# Altium footprint library to-case.PcbLib: 113 footprints (part 4 of 8)
Each footprint in its own frame and in the unit in brackets; x right, y up, seen from the top. Pads: shape width x height; smd on the part's side, far side on the other; paste and mask are expansions set on the pad; w line width, h text height; cw(c..) or ccw(c..) is an arc to the next point about the centre after c.
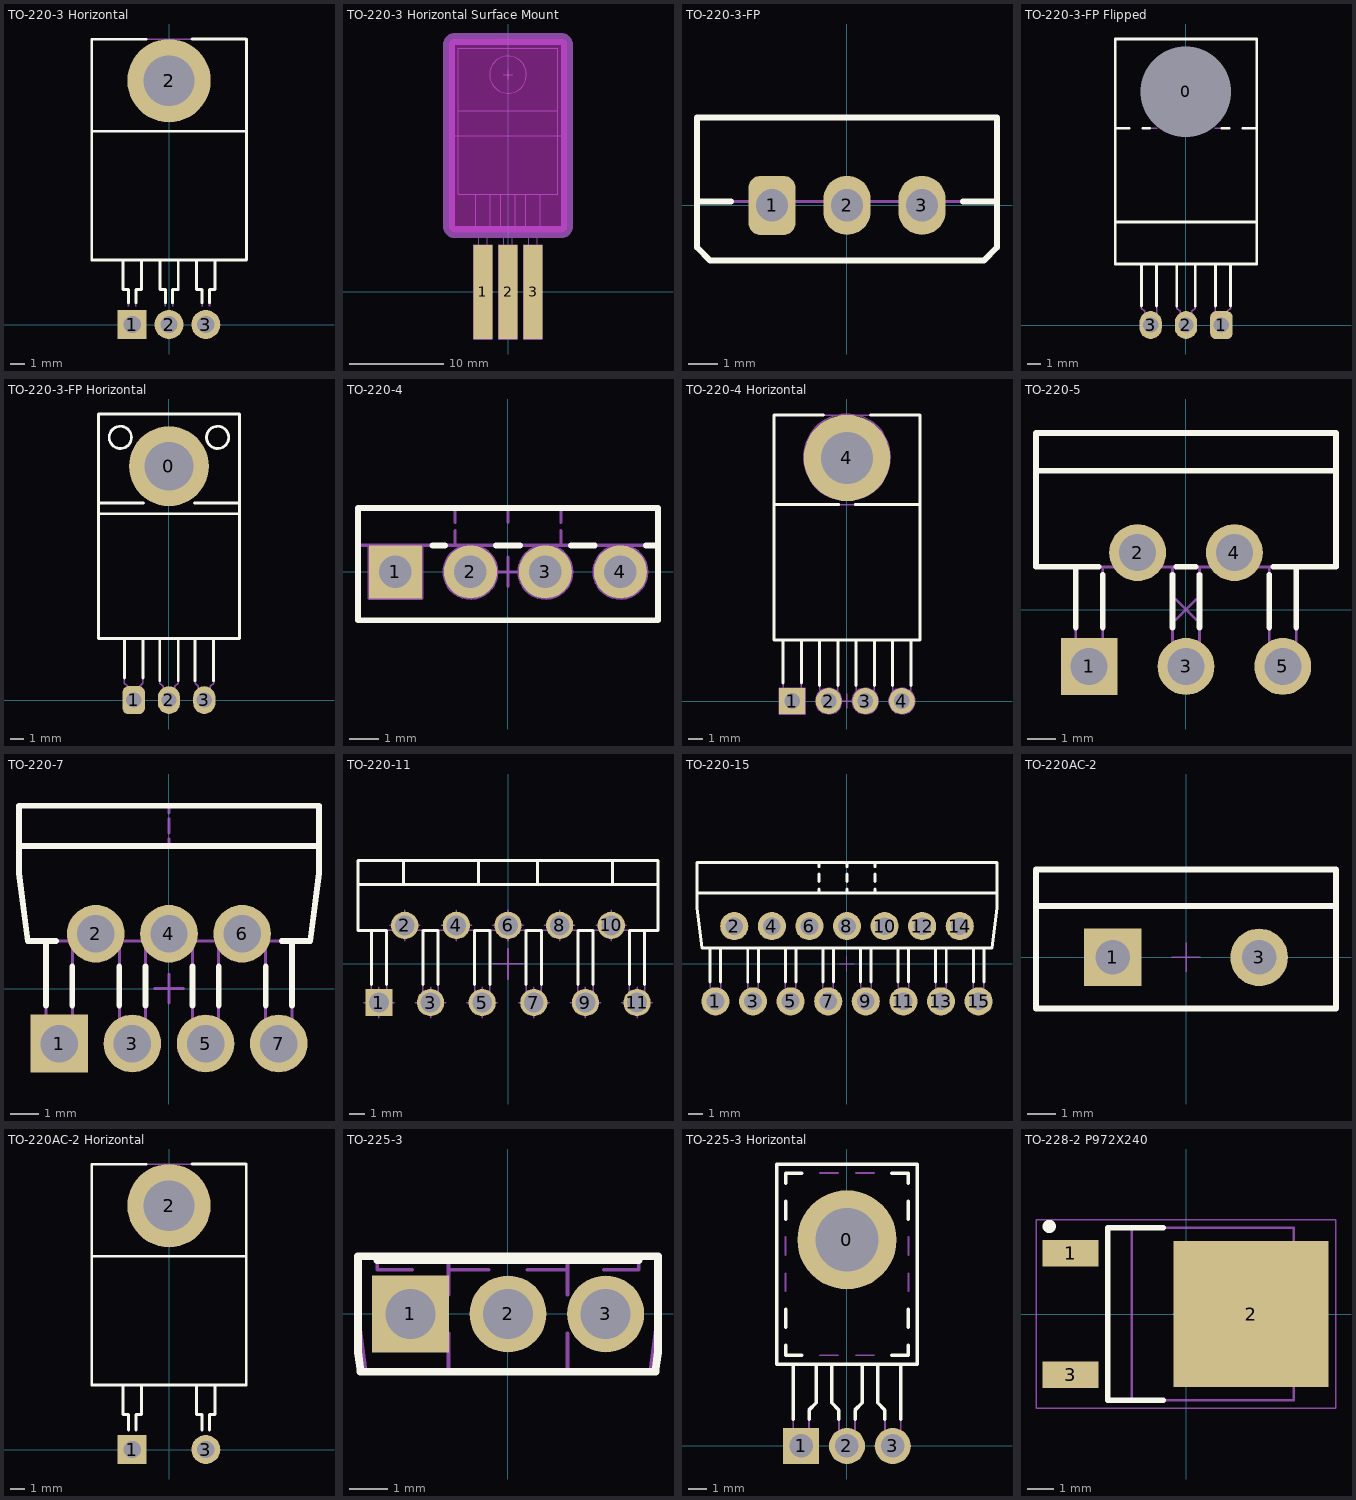
[diagram p3: the footprints below, top view; thin cyan lines are the x and y axes]

## TO-220-3 Horizontal [mm] "TO-220 3-Terminal + Tab - Horizontal Mount"
height 4.7
pads (4):
  rect 2x2 hole 1.2: 1(-2.54,0)
  round 2 hole 1.2: 2(0,0) 3(2.54,0)
  round 5.75 hole 3.5: 2(0,16.828)
Top Overlay:
  lines w0.2: -5.334,13.335 5.334,13.335 ; -3.175,4.445 -3.175,2.413 -2.794,2.413 -2.794,1.5 ; -2.286,1.5 -2.286,2.413 -1.905,2.413 -1.905,4.445 ; -1.6,19.685 -5.334,19.685 -5.334,4.445 5.334,4.445 5.334,19.685 5.319,19.7 1.6,19.7 ; -0.635,4.445 -0.635,2.413 -0.254,2.413 -0.254,1.5 ; 0.254,1.5 0.254,2.413 0.635,2.413 0.635,4.445 ; 1.905,4.445 1.905,2.413 2.286,2.413 2.286,1.5 ; 2.794,1.5 2.794,2.413 3.175,2.413 3.175,4.445
Mechanical 1:
  circle w0.1: c0,16.828 r2
  lines w0.1: -5.334,13.335 5.334,13.335 ; -3.175,4.445 -3.175,2.413 -2.794,2.413 -2.794,1.27 ; -2.286,1.27 -2.286,2.413 -1.905,2.413 -1.905,4.445 ; -0.635,4.445 -0.635,2.413 -0.254,2.413 -0.254,1.27 ; 0.254,1.27 0.254,2.413 0.635,2.413 0.635,4.445 ; 1.905,4.445 1.905,2.413 2.286,2.413 2.286,1.27 ; 2.794,1.27 2.794,2.413 3.175,2.413 3.175,4.445 ; -5.334,4.445 -5.334,19.685 5.334,19.685 5.334,4.445 -5.334,4.445
Mechanical 15:
  circle w0.1: c-0.002,16.831 r2
  lines w0.1: -5.336,13.338 5.332,13.338 ; -3.177,4.448 -3.177,2.416 -2.796,2.416 -2.796,1.273 ; -2.288,1.273 -2.288,2.416 -1.907,2.416 -1.907,4.448 ; -0.637,4.448 -0.637,2.416 -0.256,2.416 -0.256,1.273 ; -0.502,0 -0.002,0 ; -0.002,-0.5 -0.002,0 ; -0.002,0.5 -0.002,0 ; 0.252,1.273 0.252,2.416 0.633,2.416 0.633,4.448 ; 0.498,0 -0.002,0 ; 1.903,4.448 1.903,2.416 2.284,2.416 2.284,1.273 ; 2.792,1.273 2.792,2.416 3.173,2.416 3.173,4.448 ; -5.336,4.448 5.332,4.448 5.332,19.688 -5.336,19.688 -5.336,4.448
3D body "TO-220-H.stp": height 4.7, standoff -3.5, extent -5.27,-0.28 5.27,19.49

## TO-220-3 Horizontal Surface Mount [mm]
height 4.82
pads (3):
  rect 2x10 smd paste-1: 1(-2.66,0) 2(0,0) 3(2.658,0)
Keep-Out Layer:
  board cut-out: -6.25,6.95 -6.25,26.25 -6.25,26.369 -6.159,26.59 -5.99,26.759 -5.769,26.85 -5.65,26.85 5.65,26.85 5.769,26.85 5.99,26.759 6.159,26.59 6.25,26.369 6.25,26.25 6.25,6.95 6.25,6.831 6.159,6.61 5.99,6.441 5.769,6.35 5.65,6.35 -5.65,6.35 -5.769,6.35 -5.99,6.441 -6.159,6.61 -6.25,6.831
Mechanical 1:
  circle w0.1: c0,23.06 r1.961
  lines w0.1: -6.25,16.6 6.25,16.6 ; -5.27,19.25 5.27,19.25 ; -3.42,10.36 -3.42,6.56 -3.115,6.26 -3.115,-3.91 -2.205,-3.91 -2.205,6.26 -1.9,6.56 -1.9,10.36 ; -0.76,10.36 -0.76,6.56 -0.455,6.26 -0.455,-3.91 0.455,-3.91 0.455,6.26 0.76,6.56 0.76,10.36 ; 1.9,10.36 1.9,6.56 2.2,6.26 2.2,-3.91 3.115,-3.91 3.115,6.26 3.42,6.56 3.42,10.36 ; -5.27,10.36 -5.27,25.85 5.27,25.85 5.27,10.36 -5.27,10.36
  lines w1.27: -6.25,6.95 ccw(c-5.65,6.95) -5.65,6.35 5.65,6.35 ccw(c5.65,6.95) 6.25,6.95 6.25,26.25 ccw(c5.65,26.25) 5.65,26.85 -5.65,26.85 ccw(c-5.65,26.25) -6.25,26.25 -6.25,6.95
Mechanical 8:
  lines w0.1: -3.16,0 -2.66,0 ; -2.66,-0.5 -2.66,0 ; -2.66,0.5 -2.66,0 ; -2.16,0 -2.66,0 ; -0.5,23.06 0,23.06 ; 0,22.56 0,23.06 ; 0,23.56 0,23.06 ; 0.5,23.06 0,23.06 ; 2.158,0 2.658,0 ; 2.658,-0.5 2.658,0 ; 2.658,0.5 2.658,0 ; 3.158,0 2.658,0 ; -6.25,6.95 ccw(c-5.65,6.95) -5.65,6.35 5.65,6.35 ccw(c5.65,6.95) 6.25,6.95 6.25,26.25 ccw(c5.65,26.25) 5.65,26.85 -5.65,26.85 ccw(c-5.65,26.25) -6.25,26.25 -6.25,6.95 ; -3.66,-5 -1.66,-5 -1.66,5 -3.66,5 -3.66,-5 ; -1,-5 1,-5 1,5 -1,5 -1,-5 ; 1.657,-5 3.658,-5 3.658,5 1.657,5 1.657,-5
Mechanical 15:
  circle w0.1: c0,23.06 r1.961
  lines w0.1: -5.27,19.25 5.27,19.25 ; -3.42,10.36 -3.42,6.56 -3.115,6.26 -3.115,-3.91 -2.205,-3.91 -2.205,6.26 -1.9,6.56 -1.9,10.36 ; -0.76,10.36 -0.76,6.56 -0.455,6.26 -0.455,-3.91 0.455,-3.91 0.455,6.26 0.76,6.56 0.76,10.36 ; -0.5,0 0,0 ; 0,-0.5 0,0 ; 0,0.5 0,0 ; 0.5,0 0,0 ; 1.9,10.36 1.9,6.56 2.2,6.26 2.2,-3.91 3.115,-3.91 3.115,6.26 3.42,6.56 3.42,10.36 ; -5.27,10.36 5.27,10.36 5.27,25.85 -5.27,25.85 -5.27,10.36
Drill Drawing:
  lines w0.1: -6.25,11.2 -6.25,12.1 ; -5.65,11.382 -6.25,11.6 ; -5.65,11.818 -6.25,11.6 ; -4.218,6.95 -4,6.35 ; -4.218,26.25 -4,26.85 ; -3.782,6.95 -4,6.35 ; -3.782,26.25 -4,26.85 ; -0.5,16.6 0,16.6 ; 0,16.1 0,16.6 ; 0,17.1 0,16.6 ; 0.5,16.6 0,16.6 ; 1.77,7.277 5.323,7.277 6.074,6.526 ; 5.168,6.948 6.074,6.526 ; 5.65,11.382 6.25,11.6 ; 5.65,11.818 6.25,11.6 ; 5.652,7.432 6.074,6.526 ; -6.25,11.6 6.25,11.6 ; -4,6.35 -4,26.85 ; -6.25,6.95 ccw(c-5.65,6.95) -5.65,6.35 5.65,6.35 ccw(c5.65,6.95) 6.25,6.95 6.25,26.25 ccw(c5.65,26.25) 5.65,26.85 -5.65,26.85 ccw(c-5.65,26.25) -6.25,26.25 -6.25,6.95 ; 6.25,11.2 6.25,12.1 6.25,11.2
  text "r0.6" at 1.863,7.392 h1
  text "12.5mm" at 0.842,11.835 h1
  text "20.5mm" at -4.279,14.435 h1
3D body "TO-220-H_a.stp": height 2.09, standoff -2.61, extent -5.27,-3.91 5.27,25.85

## TO-220-3-FP [mm] "TO-220 3-Terminal Outline/Fully Isolated package (2500VAC; 1minute) - Vertical Mount"
height 19.6
pads (3):
  rrect50% 1.6x2 hole 1.1: 1(-2.54,0)
  oval 1.6x2 hole 1.1: 2(0,0) 3(2.54,0)
Top Overlay:
  lines w0.2: -5.08,0.13 -3.934,0.13 ; 3.934,0.13 5.08,0.13 ; -5.08,2.98 -5.073,-1.426 -4.63,-1.87 4.63,-1.87 5.08,-1.42 5.08,2.98 -5.08,2.98
Mechanical 1:
  lines w0.1: -5.08,0.13 5.08,0.13 ; -5.08,2.98 -5.073,-1.426 -4.63,-1.87 4.63,-1.87 5.08,-1.42 5.08,2.98 -5.08,2.98
Mechanical 8:
  lines w0.1: -3.04,0 -2.54,0 ; -2.54,-0.5 -2.54,0 ; -2.54,0.5 -2.54,0 ; -2.04,0 -2.54,0 ; 2.04,0 2.54,0 ; 2.54,-0.5 2.54,0 ; 2.54,0.5 2.54,0 ; 3.04,0 2.54,0
Mechanical 15:
  lines w0.1: -5.08,0.13 5.08,0.13 ; -0.5,0 0,0 ; 0,-0.5 0,0 ; 0,0.5 0,0 ; 0.5,0 0,0 ; -5.08,2.98 -5.073,-1.426 -4.63,-1.87 4.63,-1.87 5.08,-1.42 5.08,2.98 -5.08,2.98
3D body "INFINEON_PG-TO-220 FP-V.stp": height 20.7, standoff -3.6, extent -5.08,-1.87 5.08,2.98

## TO-220-3-FP Flipped [mm] "TO-220 3-Terminal Outline INFINEON/INTERNATIONAL RECTIFIER Full-Pak Package - Flipped Horizontal Mount"
height 4.83
pads (4):
  round 1.5 hole 6.5 unplated mask+2.5: 0(0,16.75)
  rrect50% 1.6x2 hole 1.1: 1(2.54,0)
  oval 1.6x2 hole 1.1: 2(0,0) 3(-2.54,0)
Top Overlay:
  lines w0.2: -5.08,7.395 5.08,7.395 ; -5.08,14.137 -4.08,14.137 ; -3.205,1.365 -3.205,4.395 ; -3.08,14.137 -2.6,14.137 ; -2.115,1.365 -2.115,4.395 ; -0.665,1.365 -0.665,4.395 ; 0.665,1.365 0.665,4.395 ; 2.115,1.365 2.115,4.395 ; 2.58,14.137 3.08,14.137 ; 3.205,1.365 3.205,4.395 ; 4.08,14.137 5.08,14.137 ; -5.08,4.395 5.08,4.395 5.08,20.545 -5.08,20.545 -5.08,4.395
Mechanical 1:
  circle w0.1: c0,16.795 r1.6
  lines w0.1: -5.08,7.395 5.08,7.395 ; -5.08,14.137 -4.08,14.137 ; -3.205,4.395 -3.205,1.22 -2.965,0.98 -2.965,-0.315 -2.115,-0.315 -2.115,4.395 ; -3.08,14.137 -2.08,14.137 ; -1.08,14.137 1.08,14.137 ; -0.665,4.395 -0.665,1.22 -0.425,0.98 -0.425,-0.315 0.425,-0.315 0.425,0.98 0.665,1.22 0.665,4.395 ; 2.08,14.137 3.08,14.137 ; 2.115,4.395 2.115,-0.315 2.965,-0.315 2.965,0.98 3.205,1.22 3.205,4.395 ; 4.08,14.137 5.08,14.137 ; -5.08,4.395 -5.08,20.545 5.08,20.545 5.08,4.395 -5.08,4.395
Mechanical 8:
  lines w0.1: -3.04,0 -2.54,0 ; -2.54,-0.5 -2.54,0 ; -2.54,0.5 -2.54,0 ; -2.04,0 -2.54,0 ; -0.5,16.75 0,16.75 ; 0,16.25 0,16.75 ; 0,17.25 0,16.75 ; 0.5,16.75 0,16.75 ; 2.04,0 2.54,0 ; 2.54,-0.5 2.54,0 ; 2.54,0.5 2.54,0 ; 3.04,0 2.54,0
Mechanical 15:
  circle w0.1: c0.002,16.796 r1.6
  lines w0.1: -5.078,7.396 5.082,7.396 ; -5.078,14.138 -4.078,14.138 ; -3.203,4.396 -3.203,1.221 -2.963,0.981 -2.963,-0.314 -2.113,-0.314 -2.113,4.396 ; -3.078,14.138 -2.078,14.138 ; -1.078,14.138 1.082,14.138 ; -0.663,4.396 -0.663,1.221 -0.423,0.981 -0.423,-0.314 0.427,-0.314 0.427,0.981 0.667,1.221 0.667,4.396 ; -0.5,0 0,0 ; 0,-0.5 0,0 ; 0,0.5 0,0 ; 0.5,0 0,0 ; 2.082,14.138 3.082,14.138 ; 2.117,4.396 2.117,-0.314 2.967,-0.314 2.967,0.981 3.207,1.221 3.207,4.396 ; 4.082,14.138 5.082,14.138 ; -5.078,4.396 5.082,4.396 5.082,20.546 -5.078,20.546 -5.078,4.396
3D body "INFINEON_TO-220 FULL-PAK-hflip.stp": height 4.85, standoff -3.6, extent -5.08,-0.315 5.08,20.545

## TO-220-3-FP Horizontal [mm] "TO-220 3-Terminal Outline/Fully Isolated package (2500VAC; 1minute) - Horizontal Mount"
height 4.83
pads (4):
  round 5.75 hole 3.5: 0(0,16.828)
  rrect50% 1.6x2 hole 1.1: 1(-2.54,0)
  oval 1.6x2 hole 1.1: 2(0,0) 3(2.54,0)
Top Overlay:
  circle w0.2: c-3.5,18.9 r0.8
  circle w0.2: c3.5,18.9 r0.8
  lines w0.2: -5.08,13.407 5.08,13.407 ; -5.08,14.172 -1.827,14.172 ; -3.205,1.6 -3.205,4.43 ; -1.875,1.6 -1.875,4.43 ; -0.665,1.4 -0.665,4.43 ; 0.665,1.4 0.665,4.43 ; 1.827,14.172 5.08,14.172 ; 1.875,1.4 1.875,4.43 ; 3.205,1.4 3.205,4.43 ; -5.08,4.43 5.08,4.43 5.08,20.58 -5.08,20.58 -5.08,4.43
Mechanical 1:
  circle w0.1: c0,16.828 r2
  circle w0.1: c0,16.83 r1.6
  circle w0.1: c-3.5,18.9 r0.8
  circle w0.1: c3.5,18.9 r0.8
  lines w0.1: -5.08,13.407 5.08,13.407 ; -5.08,14.172 -1.827,14.172 ; -3.205,4.43 -3.205,1.22 -2.965,0.98 -2.965,-0.315 -2.115,-0.315 -2.115,0.98 -1.875,1.22 -1.875,4.43 ; -0.665,4.43 -0.665,1.22 -0.425,0.98 -0.425,-0.315 0.425,-0.315 0.425,0.98 0.665,1.22 0.665,4.43 ; 1.827,14.172 5.08,14.172 ; 1.875,4.43 1.875,1.22 2.115,0.98 2.115,-0.315 2.965,-0.315 2.965,0.98 3.205,1.22 3.205,4.43 ; -5.08,4.43 5.08,4.43 5.08,20.58 -5.08,20.58 -5.08,4.43
Mechanical 8:
  lines w0.1: -3.04,0 -2.54,0 ; -2.54,-0.5 -2.54,0 ; -2.54,0.5 -2.54,0 ; -2.04,0 -2.54,0 ; 2.04,0 2.54,0 ; 2.54,-0.5 2.54,0 ; 2.54,0.5 2.54,0 ; 3.04,0 2.54,0
Mechanical 15:
  circle w0.1: c3.501,18.903 r0.8
  circle w0.1: c0.001,16.831 r2
  circle w0.1: c0.001,16.833 r1.6
  circle w0.1: c-3.499,18.903 r0.8
  lines w0.1: -5.079,13.41 5.081,13.41 ; -5.079,14.176 -1.826,14.176 ; -3.204,4.433 -3.204,1.223 -2.964,0.983 -2.964,-0.312 -2.114,-0.312 -2.114,0.983 -1.874,1.223 -1.874,4.433 ; -0.664,4.433 -0.664,1.223 -0.424,0.983 -0.424,-0.312 0.426,-0.312 0.426,0.983 0.666,1.223 0.666,4.433 ; -0.5,0 0,0 ; 0,-0.5 0,0 ; 0,0.5 0,0 ; 0.5,0 0,0 ; 1.828,14.176 5.081,14.176 ; 1.876,4.433 1.876,1.223 2.116,0.983 2.116,-0.312 2.966,-0.312 2.966,0.983 3.206,1.223 3.206,4.433 ; -5.079,4.433 5.081,4.433 5.081,20.583 -5.079,20.583 -5.079,4.433
3D body "INFINEON_PG-TO-220 FP-H.stp": height 4.85, standoff -3.6, extent -5.08,-0.315 5.08,20.58

## TO-220-4 [mm] "TO-220 4-Terminal - Vertical Mount"
height 21.46
pads (4):
  rect 1.8x1.8 hole 1.1: 1(-3.81,0)
  round 1.8 hole 1.1: 2(-1.27,0) 3(1.27,0) 4(3.81,0)
Top Overlay:
  lines w0.2: -2.56,0.9 -2.137,0.9 ; -0.403,0.9 0.403,0.9 ; 2.137,0.9 2.943,0.9 ; 4.677,0.9 5.08,0.9 ; -5.08,-1.64 -5.08,2.17 5.08,2.17 5.08,-1.64 -5.08,-1.64
Mechanical 1:
  lines w0.1: -5.08,0.9 5.08,0.9 ; -1.79,0.9 -1.79,1.4 ; -1.79,1.67 -1.79,2.17 ; 1.79,0.9 1.79,1.4 ; 1.79,1.67 1.79,2.17 ; -5.08,-1.64 -5.08,2.17 5.08,2.17 5.08,-1.64 -5.08,-1.64
Mechanical 8:
  circle w0.1: c-3.81,0 r0.55
  circle w0.1: c-1.27,0 r0.55
  circle w0.1: c-1.27,0 r0.9
  circle w0.1: c1.27,0 r0.55
  circle w0.1: c1.27,0 r0.9
  circle w0.1: c3.81,0 r0.55
  circle w0.1: c3.81,0 r0.9
  lines w0.1: -4.31,0 -3.81,0 ; -3.81,-0.5 -3.81,0 ; -3.81,0.5 -3.81,0 ; -3.31,0 -3.81,0 ; -1.77,0 -1.27,0 ; -1.27,-0.5 -1.27,0 ; -1.27,0.5 -1.27,0 ; -0.77,0 -1.27,0 ; -0.5,2.17 0,2.17 ; 0,1.67 0,2.17 ; 0.5,2.17 0,2.17 ; 0.77,0 1.27,0 ; 1.27,-0.5 1.27,0 ; 1.27,0.5 1.27,0 ; 1.77,0 1.27,0 ; 3.31,0 3.81,0 ; 3.81,-0.5 3.81,0 ; 3.81,0.5 3.81,0 ; 4.31,0 3.81,0 ; -4.71,-0.9 -2.91,-0.9 -2.91,0.9 -4.71,0.9 -4.71,-0.9
Mechanical 15:
  lines w0.1: -5.075,0.905 5.085,0.905 ; -1.785,0.905 -1.785,1.405 ; -1.785,1.675 -1.785,2.175 ; -0.5,0 0,0 ; 0,-0.5 0,0 ; 0,0.5 0,0 ; 0.5,0 0,0 ; 1.795,0.905 1.795,1.405 ; 1.795,1.675 1.795,2.175 ; -5.075,-1.635 -5.075,2.175 5.085,2.175 5.085,-1.635 -5.075,-1.635
3D body "TO-220-4-V.stp": height 20.88, standoff -3.5, extent -5.08,-1.64 5.08,2.17

## TO-220-4 Horizontal [mm] "TO-220 4-Terminal + Tab - Horizontal Mount"
height 4.01
pads (5):
  rect 1.8x1.8 hole 1.1: 1(-3.81,0)
  round 1.8 hole 1.1: 2(-1.27,0) 3(1.27,0) 4(3.81,0)
  round 6 hole 3.6: 4(0,16.895)
Top Overlay:
  lines w0.2: -5.08,13.65 -0.577,13.65 ; -4.445,1.25 -4.445,4.25 ; -3.175,1.25 -3.175,4.25 ; -1.905,1.077 -1.905,4.25 ; -1.642,19.87 -5.08,19.87 -5.08,4.25 5.08,4.25 5.08,19.87 1.642,19.87 ; -0.635,1.077 -0.635,4.25 ; 0.577,13.65 5.08,13.65 ; 0.635,1.077 0.635,4.25 ; 1.905,1.077 1.905,4.25 ; 3.175,1.077 3.175,4.25 ; 4.445,1.077 4.445,4.25
Mechanical 1:
  circle w0.1: c0,16.95 r1.79
  lines w0.1: -5.08,13.65 5.08,13.65 ; -4.445,4.25 -4.445,-0.19 -3.175,-0.19 -3.175,4.25 ; -1.905,4.25 -1.905,-0.19 -0.635,-0.19 -0.635,4.25 ; 0.635,4.25 0.635,-0.19 1.905,-0.19 1.905,4.25 ; 3.175,4.25 3.175,-0.19 4.445,-0.19 4.445,4.25 ; -5.08,4.25 5.08,4.25 5.08,19.87 -5.08,19.87 -5.08,4.25
Mechanical 8:
  circle w0.1: c-3.81,0 r0.55
  circle w0.1: c-3.81,0 r0.9
  circle w0.1: c-1.27,0 r0.55
  circle w0.1: c-1.27,0 r0.9
  circle w0.1: c1.27,0 r0.55
  circle w0.1: c1.27,0 r0.9
  circle w0.1: c3.81,0 r0.55
  circle w0.1: c3.81,0 r0.9
  circle w0.1: c0,16.95 r1.8
  circle w0.1: c0,16.95 r3
  lines w0.1: -4.31,0 -3.81,0 ; -3.81,-0.5 -3.81,0 ; -3.81,0.5 -3.81,0 ; -3.31,0 -3.81,0 ; -1.77,0 -1.27,0 ; -1.27,-0.5 -1.27,0 ; -1.27,0.5 -1.27,0 ; -0.77,0 -1.27,0 ; -0.5,16.895 0,16.895 ; 0,16.395 0,16.895 ; 0,17.395 0,16.895 ; 0.5,16.895 0,16.895 ; 0.77,0 1.27,0 ; 1.27,-0.5 1.27,0 ; 1.27,0.5 1.27,0 ; 1.77,0 1.27,0 ; 3.31,0 3.81,0 ; 3.81,-0.5 3.81,0 ; 3.81,0.5 3.81,0 ; 4.31,0 3.81,0 ; -4.71,-0.9 -2.91,-0.9 -2.91,0.9 -4.71,0.9 -4.71,-0.9
Mechanical 15:
  circle w0.1: c0,16.95 r1.79
  lines w0.1: -5.08,13.65 5.08,13.65 ; -4.445,4.25 -4.445,-0.19 -3.175,-0.19 -3.175,4.25 ; -1.905,4.25 -1.905,-0.19 -0.635,-0.19 -0.635,4.25 ; -0.5,0 0,0 ; 0,-0.5 0,0 ; 0,0.5 0,0 ; 0.5,0 0,0 ; 0.635,4.25 0.635,-0.19 1.905,-0.19 1.905,4.25 ; 3.175,4.25 3.175,-0.19 4.445,-0.19 4.445,4.25 ; -5.08,4.25 5.08,4.25 5.08,19.87 -5.08,19.87 -5.08,4.25
3D body "TO-220-4-H.stp": height 3.81, standoff -3.5, extent -5.08,-0.19 5.08,19.87

## TO-220-5 [mm] "TO-220 5-Terminal - Vertical Mount"
height 15.57
pads (5):
  rect 2x2 hole 1.3: 1(-3.4,-2)
  round 2 hole 1.3: 2(-1.7,2) 3(0,-2) 4(1.7,2) 5(3.4,-2)
Top Overlay:
  lines w0.2: -5.27,4.88 5.27,4.88 ; -3.875,-0.63 -3.875,1.5 ; -3.061,1.5 -5.27,1.5 -5.27,6.2 5.27,6.2 5.27,1.5 3.061,1.5 ; -2.925,-0.63 -2.925,1.224 ; -0.475,-0.63 -0.475,1.224 ; -0.339,1.5 0.339,1.5 ; 0.475,-0.63 0.475,1.224 ; 2.925,-0.63 2.925,1.224 ; 3.875,-0.63 3.875,1.5
Mechanical 1:
  lines w0.1: -5.27,4.88 5.27,4.88 ; -3.875,1.5 -3.875,-2.32 -2.925,-2.32 -2.925,1.5 ; -0.475,1.5 -0.475,-2.32 0.475,-2.32 0.475,1.5 ; 2.925,1.5 2.925,-2.32 3.875,-2.32 3.875,1.5 ; -5.27,1.5 -5.27,6.2 5.27,6.2 5.27,1.5 -5.27,1.5
Mechanical 8:
  lines w0.1: -3.9,-2 -3.4,-2 ; -3.4,-2.5 -3.4,-2 ; -3.4,-1.5 -3.4,-2 ; -2.9,-2 -3.4,-2 ; -2.2,2 -1.7,2 ; -1.7,1.5 -1.7,2 ; -1.7,2.5 -1.7,2 ; -1.2,2 -1.7,2 ; -0.5,-2 0,-2 ; 0,-2.5 0,-2 ; 0,-1.5 0,-2 ; 0.5,-2 0,-2 ; 1.2,2 1.7,2 ; 1.7,1.5 1.7,2 ; 1.7,2.5 1.7,2 ; 2.2,2 1.7,2 ; 2.9,-2 3.4,-2 ; 3.4,-2.5 3.4,-2 ; 3.4,-1.5 3.4,-2 ; 3.9,-2 3.4,-2
Mechanical 15:
  lines w0.1: -5.27,4.88 5.27,4.88 ; -3.875,1.5 -3.875,-2.32 -2.925,-2.32 -2.925,1.5 ; -0.475,1.5 -0.475,-2.32 0.475,-2.32 0.475,1.5 ; -0.353,-0.354 0,0 ; -0.353,0.354 0,0 ; 0.354,-0.354 0,0 ; 0.354,0.354 0,0 ; 2.925,1.5 2.925,-2.32 3.875,-2.32 3.875,1.5 ; -5.27,1.5 -5.27,6.2 5.27,6.2 5.27,1.5 -5.27,1.5
3D body "TO-220-5-V.stp": height 21.79, standoff -3.8, extent -5.27,-2.32 5.27,6.2

## TO-220-7 [mm] "TO-220 7 Leads - Vertical Mount"
height 21.37
pads (7):
  rect 2x2 hole 1.3: 1(-3.81,-1.905)
  round 2 hole 1.3: 2(-2.54,1.905) 3(-1.27,-1.905) 4(0,1.905) 5(1.27,-1.905) 6(2.54,1.905) 7(3.81,-1.905)
Top Overlay:
  lines w0.2: -5.205,4.95 5.205,4.95 ; -4.265,-0.581 -4.265,1.65 ; -3.917,1.65 -4.905,1.65 -5.205,4 -5.205,6.35 5.205,6.35 5.205,4 4.905,1.65 3.917,1.65 ; -3.355,-0.581 -3.355,0.767 ; -1.725,-0.581 -1.725,0.767 ; -0.815,-0.581 -0.815,0.767 ; 0.815,-0.581 0.815,0.767 ; 1.725,-0.581 1.725,0.767 ; 3.355,-0.581 3.355,0.767 ; 4.265,-0.581 4.265,1.65
Mechanical 1:
  lines w0.1: -5.205,4.95 5.205,4.95 ; -4.265,1.65 -4.265,-2.23 -3.355,-2.23 -3.355,1.65 ; -2.995,1.65 -2.995,1.58 -2.085,1.58 -2.085,1.65 ; -1.725,1.65 -1.725,-2.23 -0.815,-2.23 -0.815,1.65 ; -0.455,1.65 -0.455,1.58 0.455,1.58 0.455,1.65 ; 0.815,1.65 0.815,-2.23 1.725,-2.23 1.725,1.65 ; 2.085,1.65 2.085,1.58 2.995,1.58 2.995,1.65 ; 3.355,1.65 3.355,-2.23 4.265,-2.23 4.265,1.65 ; -5.205,4 -5.205,6.35 5.205,6.35 5.205,4 4.905,1.65 -4.905,1.65 -5.205,4
Mechanical 8:
  lines w0.1: -4.31,-1.905 -3.81,-1.905 ; -3.81,-2.405 -3.81,-1.905 ; -3.81,-1.405 -3.81,-1.905 ; -3.31,-1.905 -3.81,-1.905 ; -3.04,1.905 -2.54,1.905 ; -2.54,1.405 -2.54,1.905 ; -2.54,2.405 -2.54,1.905 ; -2.04,1.905 -2.54,1.905 ; -1.77,-1.905 -1.27,-1.905 ; -1.27,-2.405 -1.27,-1.905 ; -1.27,-1.405 -1.27,-1.905 ; -0.77,-1.905 -1.27,-1.905 ; -0.5,1.905 0,1.905 ; 0,1.405 0,1.905 ; 0,2.405 0,1.905 ; 0,4.95 0,5.2 ; 0,5.4 0,5.65 0,5.9 ; 0,6.1 0,6.35 ; 0.5,1.905 0,1.905 ; 0.77,-1.905 1.27,-1.905 ; 1.27,-2.405 1.27,-1.905 ; 1.27,-1.405 1.27,-1.905 ; 1.77,-1.905 1.27,-1.905 ; 2.04,1.905 2.54,1.905 ; 2.54,1.405 2.54,1.905 ; 2.54,2.405 2.54,1.905 ; 3.04,1.905 2.54,1.905 ; 3.31,-1.905 3.81,-1.905 ; 3.81,-2.405 3.81,-1.905 ; 3.81,-1.405 3.81,-1.905 ; 4.31,-1.905 3.81,-1.905
Mechanical 15:
  lines w0.1: -5.204,4.947 5.206,4.947 ; -4.264,1.647 -4.264,-2.233 -3.354,-2.233 -3.354,1.647 ; -2.994,1.647 -2.994,1.577 -2.084,1.577 -2.084,1.647 ; -1.724,1.647 -1.724,-2.233 -0.814,-2.233 -0.814,1.647 ; -0.5,0 0,0 ; -0.454,1.647 -0.454,1.577 0.456,1.577 0.456,1.647 ; 0,-0.5 0,0 ; 0,0.5 0,0 ; 0.5,0 0,0 ; 0.816,1.647 0.816,-2.233 1.726,-2.233 1.726,1.647 ; 2.086,1.647 2.086,1.577 2.996,1.577 2.996,1.647 ; 3.356,1.647 3.356,-2.233 4.266,-2.233 4.266,1.647 ; -5.204,3.997 -5.204,6.347 5.206,6.347 5.206,3.997 4.906,1.647 -4.904,1.647 -5.204,3.997
3D body "TO-220-7-V.stp": height 21.74, standoff -3.8, extent -5.205,-2.23 5.205,6.35

## TO-220-11 [mm] "TO-220 11 Leads - Vertical Mount"
height 20.82
pads (11):
  rect 1.8x1.8 hole 1.3: 1(-8.5,-2.54)
  round 1.8 hole 1.3: 2(-6.8,2.54) 3(-5.1,-2.54) 4(-3.4,2.54) 5(-1.7,-2.54) 6(0,2.54) 7(1.7,-2.54) 8(3.4,2.54) 9(5.1,-2.54) 10(6.8,2.54) 11(8.5,-2.54)
Top Overlay:
  lines w0.2: -9.88,5.23 9.88,5.23 ; -9,-1.34 -9,2.21 ; -8,-1.34 -8,2.21 -9.88,2.21 -9.88,6.83 9.88,6.83 9.88,2.21 8,2.21 8,-1.34 ; -6.88,5.23 -6.88,6.83 ; -5.6,-1.34 -5.6,2.21 -4.6,2.21 -4.6,-1.34 ; -2.2,-1.34 -2.2,2.21 -1.2,2.21 -1.2,-1.34 ; -1.93,5.23 -1.93,6.83 ; 1.2,-1.34 1.2,2.21 2.2,2.21 2.2,-1.34 ; 1.93,5.23 1.93,6.83 ; 4.6,-1.34 4.6,2.21 5.6,2.21 5.6,-1.34 ; 6.88,5.23 6.88,6.83 ; 9,-1.34 9,2.21
Mechanical 1:
  lines w0.1: -9.88,5.23 9.88,5.23 ; -9,2.21 -9,-2.84 -8,-2.84 -8,2.21 ; -6.88,5.23 -6.88,6.83 ; -5.6,2.21 -5.6,-2.84 -4.6,-2.84 -4.6,2.21 ; -2.2,2.21 -2.2,-2.84 -1.2,-2.84 -1.2,2.21 ; -1.93,5.23 -1.93,6.83 ; 1.2,2.21 1.2,-2.84 2.2,-2.84 2.2,2.21 ; 1.93,5.23 1.93,6.83 ; 4.6,2.21 4.6,-2.84 5.6,-2.84 5.6,2.21 ; 6.88,5.23 6.88,6.83 ; 8,2.21 8,-2.84 9,-2.84 9,2.21 ; -9.88,2.21 9.88,2.21 9.88,6.83 -9.88,6.83 -9.88,2.21
Mechanical 8:
  lines w0.1: -9.5,-2.54 -8.5,-2.54 ; -8.5,-3.54 -8.5,-2.54 ; -8.5,-1.54 -8.5,-2.54 ; -7.8,2.54 -6.8,2.54 ; -7.5,-2.54 -8.5,-2.54 ; -6.8,1.54 -6.8,2.54 ; -6.8,3.54 -6.8,2.54 ; -6.1,-2.54 -5.1,-2.54 ; -5.8,2.54 -6.8,2.54 ; -5.1,-3.54 -5.1,-2.54 ; -5.1,-1.54 -5.1,-2.54 ; -4.4,2.54 -3.4,2.54 ; -4.1,-2.54 -5.1,-2.54 ; -3.4,1.54 -3.4,2.54 ; -3.4,3.54 -3.4,2.54 ; -2.7,-2.54 -1.7,-2.54 ; -2.4,2.54 -3.4,2.54 ; -1.7,-3.54 -1.7,-2.54 ; -1.7,-1.54 -1.7,-2.54 ; -1,2.54 0,2.54 ; -0.7,-2.54 -1.7,-2.54 ; 0,1.54 0,2.54 ; 0,3.54 0,2.54 ; 0.7,-2.54 1.7,-2.54 ; 1,2.54 0,2.54 ; 1.7,-3.54 1.7,-2.54 ; 1.7,-1.54 1.7,-2.54 ; 2.4,2.54 3.4,2.54 ; 2.7,-2.54 1.7,-2.54 ; 3.4,1.54 3.4,2.54 ; 3.4,3.54 3.4,2.54 ; 4.1,-2.54 5.1,-2.54 ; 4.4,2.54 3.4,2.54 ; 5.1,-3.54 5.1,-2.54 ; 5.1,-1.54 5.1,-2.54 ; 5.8,2.54 6.8,2.54 ; 6.1,-2.54 5.1,-2.54 ; 6.8,1.54 6.8,2.54 ; 6.8,3.54 6.8,2.54 ; 7.5,-2.54 8.5,-2.54 ; 7.8,2.54 6.8,2.54 ; 8.5,-3.54 8.5,-2.54 ; 8.5,-1.54 8.5,-2.54 ; 9.5,-2.54 8.5,-2.54
Mechanical 15:
  lines w0.1: -9.88,5.23 9.88,5.23 ; -9,2.21 -9,-2.84 -8,-2.84 -8,2.21 ; -6.88,5.23 -6.88,6.83 ; -5.6,2.21 -5.6,-2.84 -4.6,-2.84 -4.6,2.21 ; -2.2,2.21 -2.2,-2.84 -1.2,-2.84 -1.2,2.21 ; -1.93,5.23 -1.93,6.83 ; -1,0 0,0 ; 0,-1 0,0 ; 0,1 0,0 ; 1,0 0,0 ; 1.2,2.21 1.2,-2.84 2.2,-2.84 2.2,2.21 ; 1.93,5.23 1.93,6.83 ; 4.6,2.21 4.6,-2.84 5.6,-2.84 5.6,2.21 ; 6.88,5.23 6.88,6.83 ; 8,2.21 8,-2.84 9,-2.84 9,2.21 ; -9.88,2.21 -9.88,6.83 9.88,6.83 9.88,2.21 -9.88,2.21
3D body "TO-220-11-V.stp": height 21.09, standoff -3.8, extent -9.88,-2.84 9.88,6.83

## TO-220-15 [mm] "TO-220, 15 Leads, Vertical Mount"
height 20.8
pads (15):
  round 1.9 hole 1.2: 1(-8.89,-2.54) 2(-7.62,2.54) 3(-6.35,-2.54) 4(-5.08,2.54) 5(-3.81,-2.54) 6(-2.54,2.54) 7(-1.27,-2.54) 8(0,2.54) 9(1.27,-2.54) 10(2.54,2.54) 11(3.81,-2.54) 12(5.08,2.54) 13(6.35,-2.54) 14(7.62,2.54) 15(8.89,-2.54)
Top Overlay:
  lines w0.2: -10.135,4.775 10.135,4.775 ; -9.246,-1.238 -9.246,1.067 ; -8.534,-1.238 -8.534,1.067 ; -6.706,-1.238 -6.706,1.067 ; -5.994,-1.238 -5.994,1.067 ; -4.166,-1.238 -4.166,1.067 ; -3.454,-1.238 -3.454,1.067 ; -1.905,4.775 -1.905,5.054 ; -1.905,5.554 -1.905,6.054 ; -1.905,6.554 -1.905,6.833 ; -1.626,-1.238 -1.626,1.067 ; -0.914,-1.238 -0.914,1.067 ; 0,4.775 0,5.054 ; 0,5.554 0,6.054 ; 0,6.554 0,6.833 ; 0.914,-1.238 0.914,1.067 ; 1.626,-1.238 1.626,1.067 ; 1.905,4.775 1.905,5.054 ; 1.905,5.554 1.905,6.054 ; 1.905,6.554 1.905,6.833 ; 3.454,-1.238 3.454,1.067 ; 4.166,-1.238 4.166,1.067 ; 5.994,-1.238 5.994,1.067 ; 6.706,-1.238 6.706,1.067 ; 8.534,-1.238 8.534,1.067 ; 9.246,-1.238 9.246,1.067 ; -10.135,3.747 -10.135,6.833 10.135,6.833 10.135,3.747 9.806,1.067 -9.806,1.067 -10.135,3.747
Mechanical 1:
  lines w0.1: -10.135,4.775 10.135,4.775 ; -9.246,1.067 -9.246,-2.743 -8.534,-2.743 -8.534,1.067 ; -6.706,1.067 -6.706,-2.743 -5.994,-2.743 -5.994,1.067 ; -4.166,1.067 -4.166,-2.743 -3.454,-2.743 -3.454,1.067 ; -1.905,4.775 -1.905,5.054 ; -1.905,5.554 -1.905,6.054 ; -1.905,6.554 -1.905,6.833 ; -1.626,1.067 -1.626,-2.743 -0.914,-2.743 -0.914,1.067 ; 0,4.775 0,5.054 ; 0,5.554 0,6.054 ; 0,6.554 0,6.833 ; 0.914,1.067 0.914,-2.743 1.626,-2.743 1.626,1.067 ; 1.905,4.775 1.905,5.054 ; 1.905,5.554 1.905,6.054 ; 1.905,6.554 1.905,6.833 ; 3.454,1.067 3.454,-2.743 4.166,-2.743 4.166,1.067 ; 5.994,1.067 5.994,-2.743 6.706,-2.743 6.706,1.067 ; 8.534,1.067 8.534,-2.743 9.246,-2.743 9.246,1.067 ; -10.135,3.747 -10.135,6.833 10.135,6.833 10.135,3.747 9.806,1.067 -9.806,1.067 -10.135,3.747
Mechanical 8:
  lines w0.05: -9.39,-2.54 -8.89,-2.54 -8.89,-3.04 ; -8.12,2.54 -7.62,2.54 -7.62,2.04 ; -6.85,-2.54 -6.35,-2.54 -6.35,-3.04 ; -5.58,2.54 -5.08,2.54 -5.08,2.04 ; -4.31,-2.54 -3.81,-2.54 -3.81,-3.04 ; -3.04,2.54 -2.54,2.54 -2.54,2.04 ; -1.77,-2.54 -1.27,-2.54 -1.27,-3.04 ; -0.5,2.54 0,2.54 0,2.04 ; 0.77,-2.54 1.27,-2.54 1.27,-3.04 ; 2.04,2.54 2.54,2.54 2.54,2.04 ; 3.31,-2.54 3.81,-2.54 3.81,-3.04 ; 4.58,2.54 5.08,2.54 5.08,2.04 ; 5.85,-2.54 6.35,-2.54 6.35,-3.04 ; 7.12,2.54 7.62,2.54 7.62,2.04 ; 8.39,-2.54 8.89,-2.54 8.89,-3.04
Mechanical 15:
  lines w0.05: -0.5,0 0,0 ; 0,-0.5 0,0 ; 0,0.5 0,0 ; 0.5,0 0,0
  lines w0.1: -10.134,4.771 10.135,4.771 ; -9.245,1.063 -9.245,-2.747 -8.534,-2.747 -8.534,1.063 ; -6.705,1.063 -6.705,-2.747 -5.994,-2.747 -5.994,1.063 ; -4.165,1.063 -4.165,-2.747 -3.454,-2.747 -3.454,1.063 ; -1.905,4.771 -1.905,5.05 ; -1.905,5.55 -1.905,6.05 ; -1.905,6.55 -1.905,6.829 ; -1.625,1.063 -1.625,-2.747 -0.914,-2.747 -0.914,1.063 ; 0,4.771 0,5.05 ; 0,5.55 0,6.05 ; 0,6.55 0,6.829 ; 0.915,1.063 0.915,-2.747 1.626,-2.747 1.626,1.063 ; 1.905,4.771 1.905,5.05 ; 1.905,5.55 1.905,6.05 ; 1.905,6.55 1.905,6.829 ; 3.455,1.063 3.455,-2.747 4.166,-2.747 4.166,1.063 ; 5.995,1.063 5.995,-2.747 6.706,-2.747 6.706,1.063 ; 8.535,1.063 8.535,-2.747 9.246,-2.747 9.246,1.063 ; -10.134,3.742 -10.134,6.829 10.135,6.829 10.135,3.742 9.806,1.063 -9.805,1.063 -10.134,3.742
3D body "TO-220-15-V.stp": height 20.83, standoff -3.98, extent -10.134,-2.743 10.135,6.833

## TO-220AC-2 [mm] "TO-220AC Ins. 2-Terminal - Vertical Mount"
height 22.86
pads (2):
  rect 2x2 hole 1.2: 1(-2.54,0)
  round 2 hole 1.2: 3(2.54,0)
Top Overlay:
  lines w0.2: -5.207,1.778 5.207,1.778 ; -5.207,-1.778 5.207,-1.778 5.207,3.048 -5.207,3.048 -5.207,-1.778
Mechanical 1:
  lines w0.1: -5.207,1.778 5.207,1.778 ; -5.207,-1.778 5.207,-1.778 5.207,3.048 -5.207,3.048 -5.207,-1.778
Mechanical 15:
  lines w0.05: -0.5,0 0,0 ; 0,-0.5 0,0 ; 0,0.5 0,0 ; 0.5,0 0,0
  lines w0.1: -5.209,1.78 5.205,1.78 ; -5.209,-1.776 5.205,-1.776 5.205,3.05 -5.209,3.05 -5.209,-1.776
3D body "TO-220AC-2-V.stp": height 20.5, standoff -3.5, extent -5.27,-1.75 5.27,2.95

## TO-220AC-2 Horizontal [mm] "TO-220AC Ins. 2-Terminal + Tab - Horizontal Mount"
height 4.7
pads (3):
  rect 2x2 hole 1.2: 1(-2.54,0)
  round 5.75 hole 3.5: 2(0,16.828)
  round 2 hole 1.2: 3(2.54,0)
Top Overlay:
  lines w0.2: -5.334,13.335 5.334,13.335 ; -3.175,4.445 -3.175,2.413 -2.794,2.413 -2.794,1.35 ; -2.286,1.35 -2.286,2.413 -1.905,2.413 -1.905,4.445 ; -1.6,19.685 -5.334,19.685 -5.334,4.445 5.334,4.445 5.334,19.685 5.319,19.7 1.6,19.7 ; 1.905,4.445 1.905,2.413 2.286,2.413 2.286,1.35 ; 2.794,1.35 2.794,2.413 3.175,2.413 3.175,4.445
Mechanical 1:
  circle w0.1: c0,16.828 r2
  lines w0.1: -5.334,13.335 5.334,13.335 ; -3.175,4.445 -3.175,2.413 -2.794,2.413 -2.794,1.27 ; -2.286,1.27 -2.286,2.413 -1.905,2.413 -1.905,4.445 ; 1.905,4.445 1.905,2.413 2.286,2.413 2.286,1.27 ; 2.794,1.27 2.794,2.413 3.175,2.413 3.175,4.445 ; -5.334,4.445 -5.334,19.685 5.334,19.685 5.334,4.445 -5.334,4.445
Mechanical 15:
  circle w0.1: c0,16.828 r2
  lines w0.05: -0.5,16.825 0,16.825 ; 0,16.325 0,16.825 ; 0,17.325 0,16.825 ; 0.5,16.825 0,16.825
  lines w0.1: -5.334,13.335 5.334,13.335 ; -3.175,4.445 -3.175,2.413 -2.794,2.413 -2.794,1.27 ; -2.286,1.27 -2.286,2.413 -1.905,2.413 -1.905,4.445 ; 1.905,4.445 1.905,2.413 2.286,2.413 2.286,1.27 ; 2.794,1.27 2.794,2.413 3.175,2.413 3.175,4.445 ; -5.334,4.445 -5.334,19.685 5.334,19.685 5.334,4.445 -5.334,4.445
3D body "TO-220AC-2-H.stp": height 4.7, standoff -3.5, extent -5.27,-0.28 5.27,19.49

## TO-225-3 [mm] "TO-225, 3-Terminal, Vertical Mount"
height 13.64
pads (3):
  rect 2x2 hole 1.3: 1(-2.54,0)
  round 2 hole 1.3: 2(0,0) 3(2.54,0)
Top Overlay:
  lines w0.2: -3.4,1.499 -3.4,1.4 3.4,1.4 3.4,1.499 ; -3.9,-0.999 -3.833,-1.501 3.833,-1.501 3.9,-0.998 3.9,1.499 -3.9,1.499 -3.9,-0.999
Mechanical 1:
  lines w0.1: -3.4,1.499 -3.4,1.149 -2.5,1.149 ; -1.55,-1.501 -1.55,-0.501 ; -1.55,0.499 -1.55,1.499 ; -1.5,1.149 -0.5,1.149 ; 0.5,1.149 1.5,1.149 ; 1.55,-1.501 1.55,-0.501 ; 1.55,0.499 1.55,1.499 ; 2.5,1.149 3.4,1.149 3.4,1.499 ; -3.9,-0.001 -3.9,1.499 3.9,1.499 3.9,-0.001 3.7,-1.501 -3.7,-1.501 -3.9,-0.001
Mechanical 8:
  lines w0.05: -3.04,0 -2.54,0 ; -2.54,-0.5 -2.54,0 ; -2.54,0.5 -2.54,0 ; -2.04,0 -2.54,0 ; 2.04,0 2.54,0 ; 2.54,-0.5 2.54,0 ; 2.54,0.5 2.54,0 ; 3.04,0 2.54,0
Mechanical 15:
  lines w0.05: -0.5,0 0,0 ; 0,-0.5 0,0 ; 0,0.5 0,0 ; 0.5,0 0,0
  lines w0.1: -3.9,-0.001 -3.7,-1.501 3.7,-1.501 3.9,-0.001 3.9,1.499 -3.9,1.499 -3.9,-0.001
3D body "TO-225-V.stp": height 13.64, standoff -3.5, extent -3.9,-1.5 3.9,1.5

## TO-225-3 Horizontal [mm] "TO-225, 3-Terminal, Horizontal Mount"
height 3
pads (4):
  round 5.5 hole 3.5: 0(0,11.43)
  rect 2x2 hole 1.3: 1(-2.54,0)
  round 2 hole 1.3: 2(0,0) 3(2.54,0)
Top Overlay:
  lines w0.2: -3.4,5.578 -3.4,5.03 -2.5,5.03 ; -3.4,6.578 -3.4,7.578 ; -3.4,12.578 -3.4,13.578 ; -3.4,14.578 -3.4,15.125 -2.5,15.125 ; -2.98,1.486 -2.98,4.53 ; -2.1,1.486 -2.1,1.99 -1.7,2.39 -1.7,4.53 ; -0.85,4.53 -0.85,2.39 -0.45,1.99 -0.45,1.483 ; 0.45,1.483 0.45,1.99 0.85,2.39 0.85,4.53 ; 1.7,4.53 1.7,2.39 2.1,1.99 2.1,1.486 ; 2.5,5.03 3.4,5.03 3.4,5.578 ; 2.5,15.125 3.4,15.125 3.4,14.578 ; 2.98,1.486 2.98,4.53 ; 3.4,6.578 3.4,7.578 ; 3.4,12.578 3.4,13.578 ; -3.9,4.53 3.9,4.53 3.9,15.63 -3.9,15.63 -3.9,4.53
Mechanical 1:
  circle w0.1: c0,11.43 r1.55
  lines w0.1: -3.4,5.578 -3.4,5.03 -2.5,5.03 ; -3.4,6.578 -3.4,7.578 ; -3.4,8.578 -3.4,9.578 ; -3.4,10.578 -3.4,11.578 ; -3.4,12.578 -3.4,13.578 ; -3.4,14.578 -3.4,15.125 -2.5,15.125 ; -2.98,4.53 -2.98,-0.315 -2.1,-0.315 -2.1,1.99 -1.7,2.39 -1.7,4.53 ; -1.521,11.731 -1.809,11.897 cw(c-1.559,12.33) -1.309,12.763 -1.021,12.597 ; -1.5,5.03 -0.5,5.03 ; -1.5,15.125 -0.5,15.125 ; -0.85,4.53 -0.85,2.39 -0.45,1.99 -0.45,-0.315 0.45,-0.315 0.45,1.99 0.85,2.39 0.85,4.53 ; 0.5,5.03 1.5,5.03 ; 0.5,15.125 1.5,15.125 ; 1.021,12.597 1.309,12.763 cw(c1.559,12.33) 1.809,11.897 1.521,11.731 ; 1.7,4.53 1.7,2.39 2.1,1.99 2.1,-0.315 2.98,-0.315 2.98,4.53 ; 2.5,5.03 3.4,5.03 3.4,5.578 ; 2.5,15.125 3.4,15.125 3.4,14.578 ; 3.4,6.578 3.4,7.578 ; 3.4,8.578 3.4,9.578 ; 3.4,10.578 3.4,11.578 ; 3.4,12.578 3.4,13.578 ; -3.9,4.53 -3.9,15.63 3.9,15.63 3.9,4.53 -3.9,4.53
Mechanical 8:
  lines w0.05: -3.04,0 -2.54,0 ; -2.54,-0.5 -2.54,0 ; -2.54,0.5 -2.54,0 ; -2.04,0 -2.54,0 ; 2.04,0 2.54,0 ; 2.54,-0.5 2.54,0 ; 2.54,0.5 2.54,0 ; 3.04,0 2.54,0
Mechanical 15:
  circle w0.1: c0.005,11.433 r1.55
  lines w0.05: -0.5,0 0,0 ; 0,-0.5 0,0 ; 0,0.5 0,0 ; 0.5,0 0,0
  lines w0.1: -3.395,5.581 -3.395,5.033 -2.495,5.033 ; -3.395,6.581 -3.395,7.581 ; -3.395,8.581 -3.395,9.581 ; -3.395,10.581 -3.395,11.581 ; -3.395,12.581 -3.395,13.581 ; -3.395,14.581 -3.395,15.128 -2.495,15.128 ; -2.975,4.533 -2.975,-0.312 -2.095,-0.312 -2.095,1.993 -1.695,2.393 -1.695,4.533 ; -1.515,11.734 -1.803,11.9 cw(c-1.553,12.333) -1.303,12.766 -1.015,12.6 ; -1.495,5.033 -0.495,5.033 ; -1.495,15.128 -0.495,15.128 ; -0.845,4.533 -0.845,2.393 -0.445,1.993 -0.445,-0.312 0.455,-0.312 0.455,1.993 0.855,2.393 0.855,4.533 ; 0.505,5.033 1.505,5.033 ; 0.505,15.128 1.505,15.128 ; 1.026,12.6 1.314,12.766 cw(c1.564,12.333) 1.814,11.9 1.526,11.734 ; 1.705,4.533 1.705,2.393 2.105,1.993 2.105,-0.312 2.985,-0.312 2.985,4.533 ; 2.505,5.033 3.405,5.033 3.405,5.581 ; 2.505,15.128 3.405,15.128 3.405,14.581 ; 3.405,6.581 3.405,7.581 ; 3.405,8.581 3.405,9.581 ; 3.405,10.581 3.405,11.581 ; 3.405,12.581 3.405,13.581 ; -3.895,4.533 3.905,4.533 3.905,15.633 -3.895,15.633 -3.895,4.533
3D body "TO-225-H.stp": height 3, standoff -3.5, extent -3.9,-0.315 3.9,15.63

## TO-228-2 P972X240 [mm] "TO-252 DPAK TO, 2.28mm Pitch; 2 Pin, 9.725mm L X 6.50mm W X 2.40mm H body, IPC Medium Density"
height 2.4
pads (3):
  rect 2.1x1 smd: 1(-4.35,2.28) 3(-4.35,-2.28)
  rect 5.85x5.5 smd: 2(2.45,0)
Top Overlay:
  circle w0.25: c-5.15,3.3 r0.125
  lines w0.2: -0.85,-3.25 -2.95,-3.25 -2.95,3.25 -0.85,3.25
Top Paste:
  region: 0.22,-2.05 2.1,-2.05 2.1,-0.35 0.22,-0.35
  region: 2.8,-2.05 4.68,-2.05 4.68,-0.35 2.8,-0.35
  region: 0.22,0.35 2.1,0.35 2.1,2.05 0.22,2.05
  region: 2.8,0.35 4.68,0.35 4.68,2.05 2.8,2.05
Mechanical 1:
  lines w0.1: 4.062,-2.65 4.326,-2.65 4.863,-2.056 4.863,2.056 4.327,2.65 4.063,2.65 ; -2.037,-3.25 -2.037,3.25 4.062,3.25 4.062,-3.25 -2.037,-3.25
Mechanical 15:
  lines w0.05: -0.5,0 0.5,0 ; 0,-0.5 0,0.5 ; -5.65,-3.55 -5.65,3.55 5.65,3.55 5.65,-3.55 -5.65,-3.55
3D body "TO228P972X240-3N-R540X510.stp": height 2.4, standoff 0, extent -4.9,-3.3 4.82,3.3